# Altium integrated library MIC5207-1P8YM5-TR.IntLib: 2 symbols
Pins are listed as number, name and electrical type; pins without a type are passive.

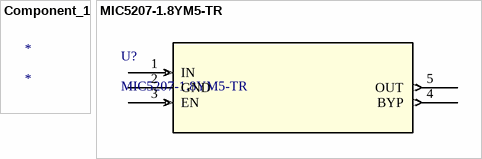
[diagram p0: symbols Component_1 to MIC5207-1.8YM5-TR]

## Component_1
designator *

## MIC5207-1.8YM5-TR
designator U?
No Description Available; Mfr_Name: Microchip; Copyright: Copyright (C) 2022 Ultra Librarian. All rights reserved.; Manufacturer_Part_Number: MIC5207-1.8YM5-TR; RefDes: RefDes; Type: DEV
footprint SOT-23-5_M5_MCH
pins: 1 IN (in), 2 GND (power), 3 EN (in), 4 BYP (out), 5 OUT (out)